# EAGLE library part NUCLEO-STM32F446RE (library roboCup)
NUCLEO-STM32F446RE Development Board https://www.st.com/en/evaluation-tools/nucleo-f446re.html#sw-tools-scroll
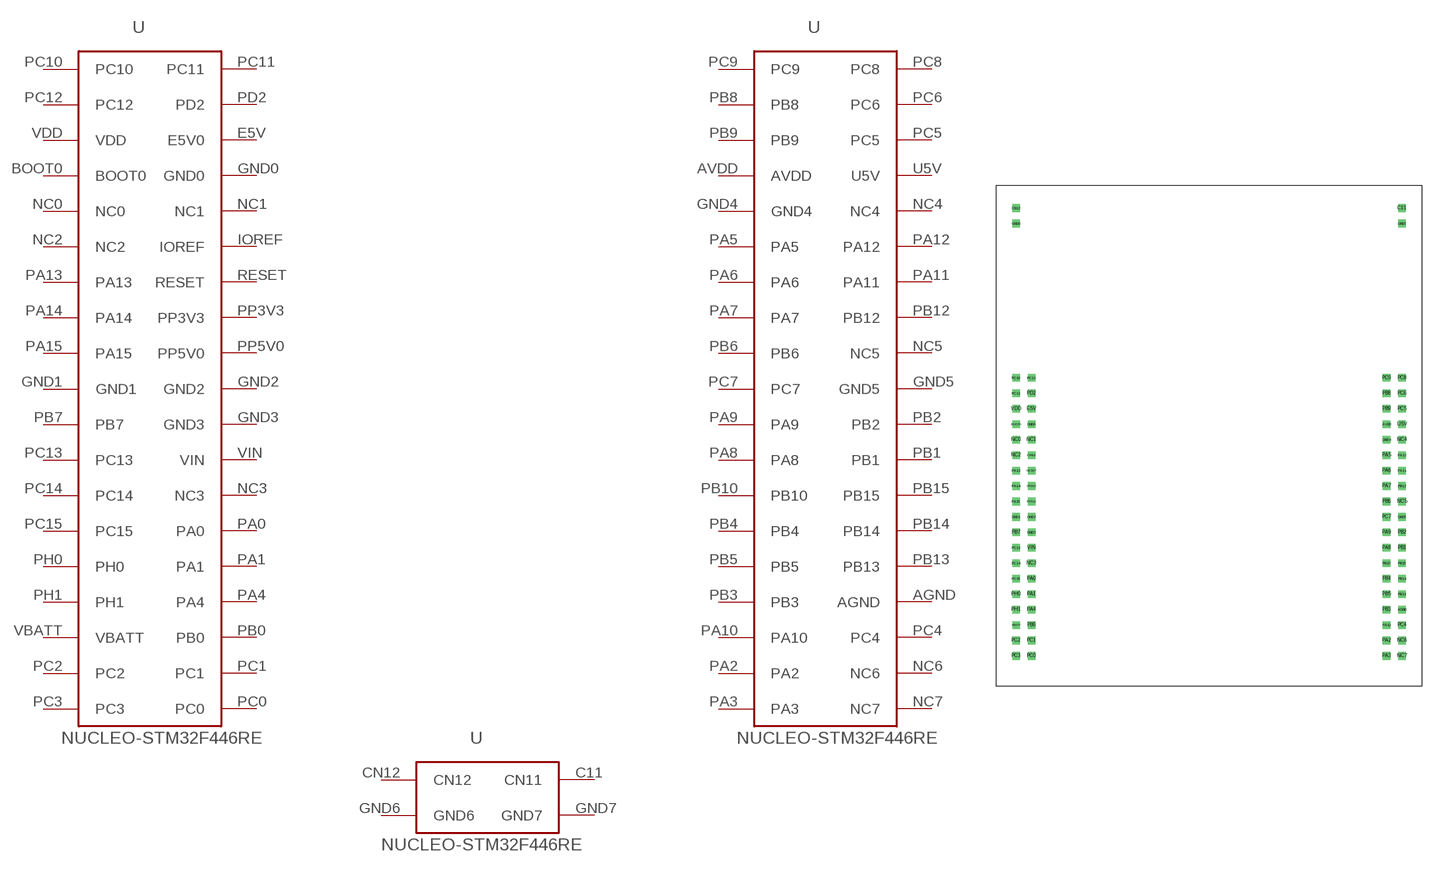
[diagram p1: symbol with the pads of NUCLEO-STM32F446RE; footprint NUCLEO-STM32F446RE]

Designator prefix U

## NUCLEO-STM32F446RE  [NUCLEO-STM32F446RE]
AGND  AGND
AVDD  AVDD
BOOT0  BOOT0
C11  CN11
CN12  CN12
E5V  E5V0
GND0  GND0
GND1  GND1
GND2  GND2
GND3  GND3
GND4  GND4
GND5  GND5
GND6  GND6
GND7  GND7
IOREF  IOREF
NC0  NC0
NC1  NC1
NC2  NC2
NC3  NC3
NC4  NC4
NC5  NC5
NC6  NC6
NC7  NC7
PA0  PA0
PA1  PA1
PA2  PA2
PA3  PA3
PA4  PA4
PA5  PA5
PA6  PA6
PA7  PA7
PA8  PA8
PA9  PA9
PA10  PA10
PA11  PA11
PA12  PA12
PA13  PA13
PA14  PA14
PA15  PA15
PB0  PB0
PB1  PB1
PB2  PB2
PB3  PB3
PB4  PB4
PB5  PB5
PB6  PB6
PB7  PB7
PB8  PB8
PB9  PB9
PB10  PB10
PB12  PB12
PB13  PB13
PB14  PB14
PB15  PB15
PC0  PC0
PC1  PC1
PC2  PC2
PC3  PC3
PC4  PC4
PC5  PC5
PC6  PC6
PC7  PC7
PC8  PC8
PC9  PC9
PC10  PC10
PC11  PC11
PC12  PC12
PC13  PC13
PC14  PC14
PC15  PC15
PD2  PD2
PH0  PH0
PH1  PH1
PP3V3  PP3V3
PP5V0  PP5V0
RESET  RESET
U5V  U5V
VBATT  VBATT
VDD  VDD
VIN  VIN

## Footprint NUCLEO-STM32F446RE (pad centres in mm)
drill 0.75 pad 1.016 square: AGND 31.75,-28.59; AVDD 29.21,1.89; BOOT0 -31.75,1.89; C11 31.75,37.45; CN12 -31.75,37.45; E5V -29.21,4.43; GND0 -29.21,1.89; GND1 -31.75,-13.35; GND2 -29.21,-13.35; GND3 -29.21,-15.89; GND4 29.21,-0.65; GND5 31.75,-13.35; GND6 -31.75,34.91; GND7 31.75,34.91; IOREF -29.21,-3.19; NC0 -31.75,-0.65; NC1 -29.21,-0.65; NC2 -31.75,-3.19; NC3 -29.21,-20.97; NC4 31.75,-0.65; NC5 31.75,-10.81; NC6 31.75,-33.67; NC7 31.75,-36.21; PA0 -29.21,-23.51; PA1 -29.21,-26.05; PA2 29.21,-33.67; PA3 29.21,-36.21; PA4 -29.21,-28.59; PA5 29.21,-3.19; PA6 29.21,-5.73; PA7 29.21,-8.27; PA8 29.21,-18.43; PA9 29.21,-15.89; PA10 29.21,-31.13; PA11 31.75,-5.73; PA12 31.75,-3.19; PA13 -31.75,-5.73; PA14 -31.75,-8.27; PA15 -31.75,-10.81; PB0 -29.21,-31.13; PB1 31.75,-18.43; PB2 31.75,-15.89; PB3 29.21,-28.59; PB4 29.21,-23.51; PB5 29.21,-26.05; PB6 29.21,-10.81; PB7 -31.75,-15.89; PB8 29.21,6.97; PB9 29.21,4.43; PB10 29.21,-20.97; PB12 31.75,-8.27; PB13 31.75,-26.05; PB14 31.75,-23.51; PB15 31.75,-20.97; PC0 -29.21,-36.21; PC1 -29.21,-33.67; PC2 -31.75,-33.67; PC3 -31.75,-36.21; PC4 31.75,-31.13; PC5 31.75,4.43; PC6 31.75,6.97; PC7 29.21,-13.35; PC8 31.75,9.51; PC9 29.21,9.51; PC10 -31.75,9.51; PC11 -29.21,9.51; PC12 -31.75,6.97; PC13 -31.75,-18.43; PC14 -31.75,-20.97; PC15 -31.75,-23.51; PD2 -29.21,6.97; PH0 -31.75,-26.05; PH1 -31.75,-28.59; PP3V3 -29.21,-8.27; PP5V0 -29.21,-10.81; RESET -29.21,-5.73; U5V 31.75,1.89; VBATT -31.75,-31.13; VDD -31.75,4.43; VIN -29.21,-18.43